# Altium footprint library PWRM-TH_HLK-10M05.PcbLib: 1 footprints
Each footprint in its own frame and in the unit in brackets; x right, y up, seen from the top. Pads: shape width x height; smd on the part's side, far side on the other; paste and mask are expansions set on the pad; w line width, h text height; cw(c..) or ccw(c..) is an arc to the next point about the centre after c.
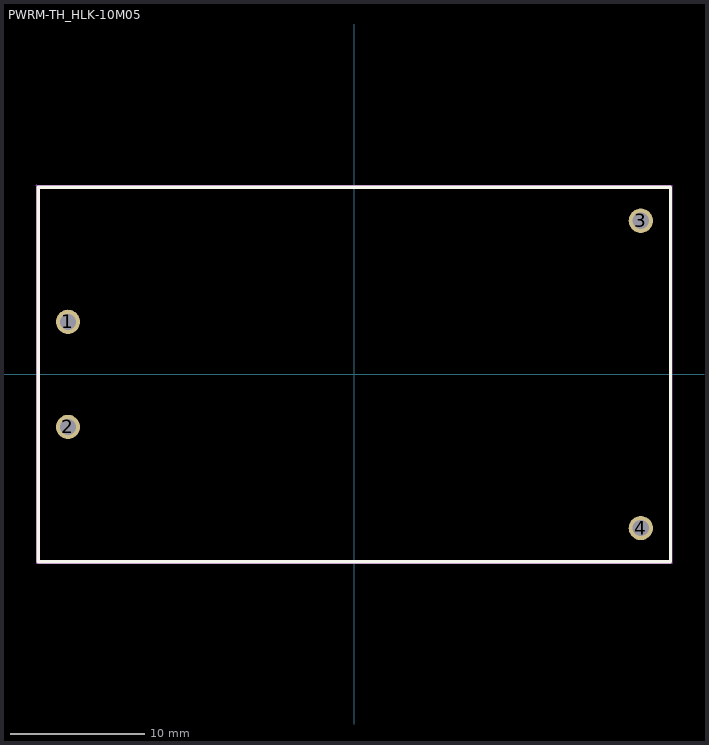
[diagram p0: the footprint, top view; thin cyan lines are the x and y axes]

## PWRM-TH_HLK-10M05 [mm]
pads (4):
  round 1.8 hole 1.2: 1(-21.25,3.9) 2(-21.25,-3.9) 3(21.25,11.4) 4(21.25,-11.4)
Top Overlay:
  lines w0.254: -23.45,-13.9 23.45,-13.9 23.45,13.9 -23.45,13.9 -23.45,-13.9
Mechanical 15:
  region: -23.517,14.027 -23.517,14.002 -23.552,13.967 -23.602,13.967 -23.637,14.002 -23.637,14.027 -23.637,14.052 -23.602,14.087 -23.552,14.087 -23.517,14.052 -23.517,14.027
  region: -20.75,3.9 -20.75,3.801 -20.826,3.617 -20.967,3.476 -21.151,3.4 -21.349,3.4 -21.533,3.476 -21.674,3.617 -21.75,3.801 -21.75,3.9 -21.75,4 -21.674,4.183 -21.533,4.324 -21.349,4.4 -21.151,4.4 -20.967,4.324 -20.826,4.183 -20.75,4 -20.75,3.9
  region: -20.75,-3.9 -20.75,-3.999 -20.826,-4.183 -20.967,-4.324 -21.151,-4.4 -21.349,-4.4 -21.533,-4.324 -21.674,-4.183 -21.75,-3.999 -21.75,-3.9 -21.75,-3.8 -21.674,-3.617 -21.533,-3.476 -21.349,-3.4 -21.151,-3.4 -20.967,-3.476 -20.826,-3.617 -20.75,-3.8 -20.75,-3.9
  region: 21.75,11.4 21.75,11.301 21.674,11.117 21.533,10.976 21.349,10.9 21.151,10.9 20.967,10.976 20.826,11.117 20.75,11.301 20.75,11.4 20.75,11.499 20.826,11.683 20.967,11.824 21.151,11.9 21.349,11.9 21.533,11.824 21.674,11.683 21.75,11.499 21.75,11.4
  region: 21.75,-11.4 21.75,-11.499 21.674,-11.683 21.533,-11.824 21.349,-11.9 21.151,-11.9 20.967,-11.824 20.826,-11.683 20.75,-11.499 20.75,-11.4 20.75,-11.301 20.826,-11.117 20.967,-10.976 21.151,-10.9 21.349,-10.9 21.533,-10.976 21.674,-11.117 21.75,-11.301 21.75,-11.4
  lines w0.051: -23.577,-14.027 -23.577,14.027 23.577,14.027 23.577,-14.027 -23.577,-14.027